# EAGLE library part TXS2SA (library firefly)
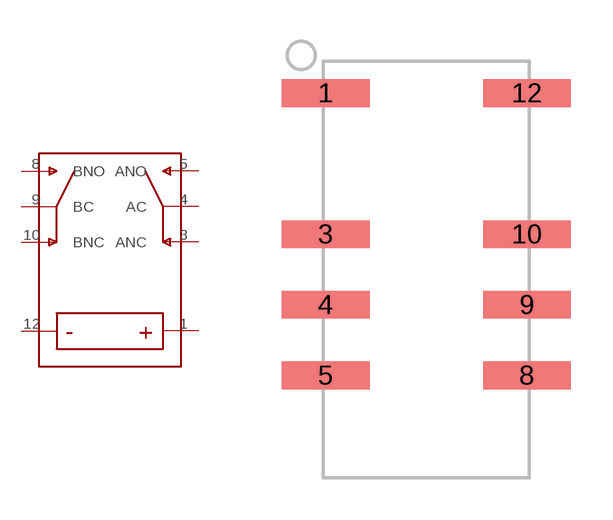
[diagram p25: symbol with the pads of TXS2SA; footprint TXS2SA]

Designator prefix -

## TXS2SA  [TXS2SA]
1  +
3  ANC
4  AC
5  ANO
8  BNO
9  BC
10  BNC
12  -

## Footprint TXS2SA (pad centres in mm)
smd 3.16 x 1: 1 -3.62,6.35; 3 -3.62,1.27; 4 -3.62,-1.27; 5 -3.62,-3.81; 8 3.62,-3.81; 9 3.62,-1.27; 10 3.62,1.27; 12 3.62,6.35